# Altium footprint library IPC-7355 QFP_Shrink_Rect_40P_Side_N.PcbLib: 12 footprints
Each footprint in its own frame and in the unit in brackets; x right, y up, seen from the top. Pads: shape width x height; smd on the part's side, far side on the other; paste and mask are expansions set on the pad; w line width, h text height; cw(c..) or ccw(c..) is an arc to the next point about the centre after c.
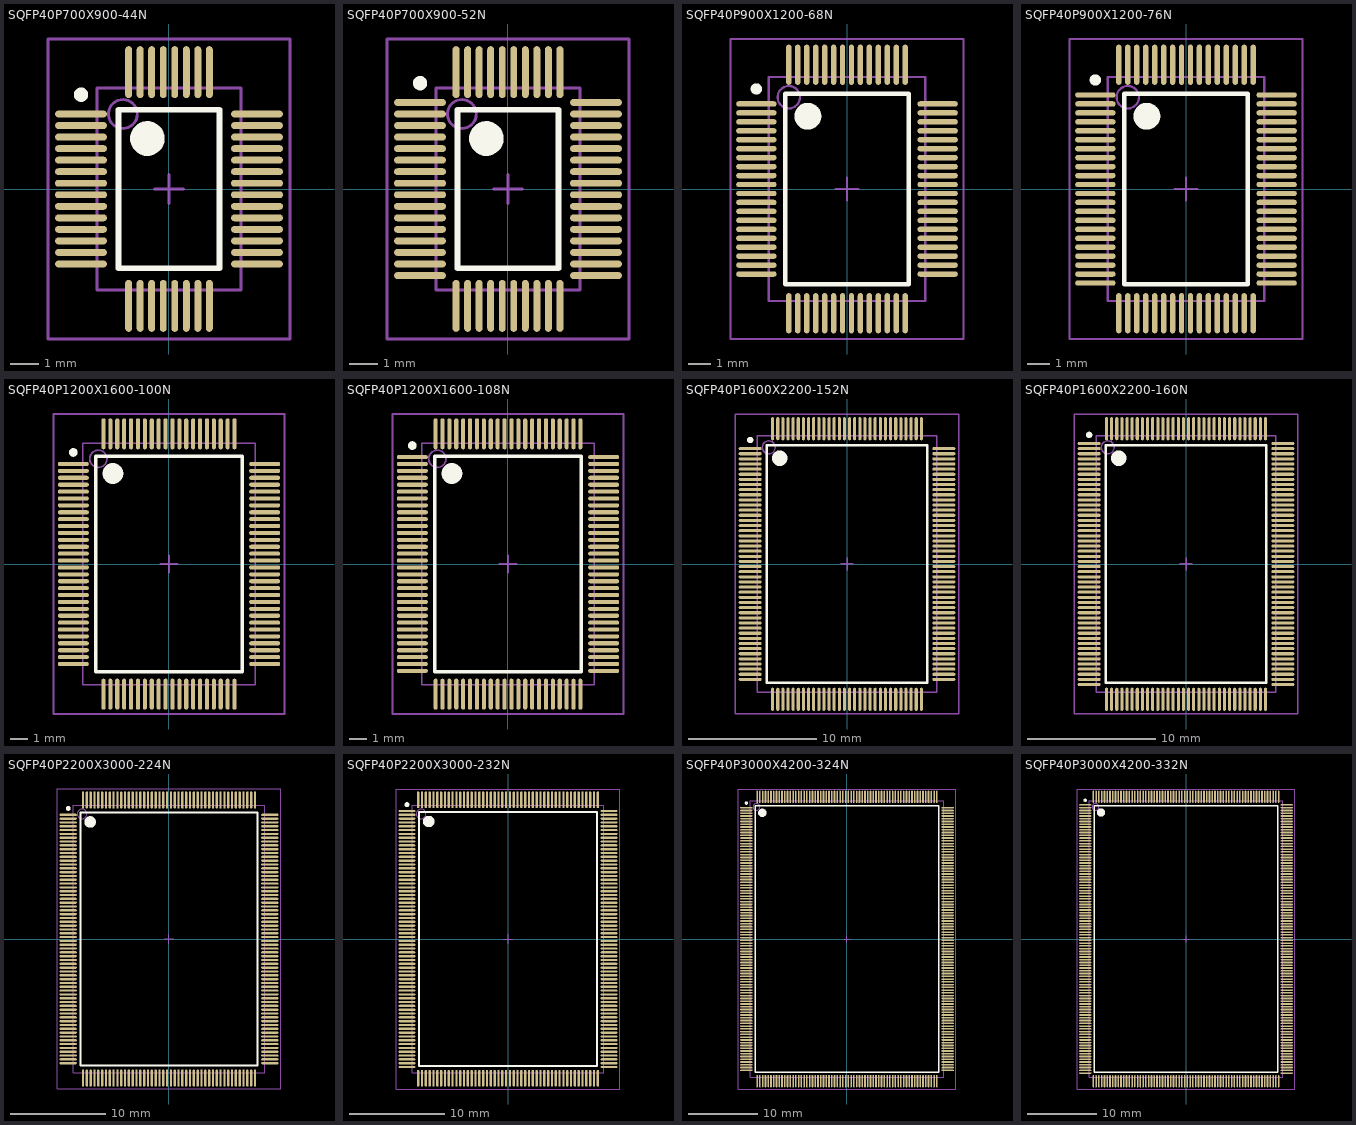
[diagram p0: the footprints below, top view; thin cyan lines are the x and y axes]

## SQFP40P700X900-44N [mm] "Shrink QFP, 44-Leads, Body 7x5 mm, Pitch 0.4mm, IPC Medium Density"
height 1.7
pads (44):
  oval 1.8x0.24 smd: 1(-3.05,2.6) 2(-3.05,2.2) 3(-3.05,1.8) 4(-3.05,1.4) 5(-3.05,1) 6(-3.05,0.6) 7(-3.05,0.2) 8(-3.05,-0.2) 9(-3.05,-0.6) 10(-3.05,-1) 11(-3.05,-1.4) 12(-3.05,-1.8) 13(-3.05,-2.2) 14(-3.05,-2.6) 23(3.05,-2.6) 24(3.05,-2.2) 25(3.05,-1.8) 26(3.05,-1.4) 27(3.05,-1) 28(3.05,-0.6) 29(3.05,-0.2) 30(3.05,0.2) 31(3.05,0.6) 32(3.05,1) 33(3.05,1.4) 34(3.05,1.8) 35(3.05,2.2) 36(3.05,2.6)
  oval 0.24x1.8 smd: 15(-1.4,-4.05) 16(-1,-4.05) 17(-0.6,-4.05) 18(-0.2,-4.05) 19(0.2,-4.05) 20(0.6,-4.05) 21(1,-4.05) 22(1.4,-4.05) 37(1.4,4.05) 38(1,4.05) 39(0.6,4.05) 40(0.2,4.05) 41(-0.2,4.05) 42(-0.6,4.05) 43(-1,4.05) 44(-1.4,4.05)
Top Overlay:
  circle w0.6: c-0.75,1.75 r0.3
  circle w0.25: c-3.05,3.27 r0.125
  lines w0.2: -1.75,-2.75 1.75,-2.75 1.75,2.75 -1.75,2.75 -1.75,-2.75
Mechanical 13:
  circle w0.1: c-1.6,2.6 r0.5
  lines w0.1: -2.5,-3.5 2.5,-3.5 2.5,3.5 -2.5,3.5 -2.5,-3.5
Mechanical 15:
  lines w0.1: -0.5,0 0.5,0 ; 0,-0.5 0,0.5 ; -4.2,-5.2 4.2,-5.2 4.2,5.2 -4.2,5.2 -4.2,-5.2
3D body: height 1.7, standoff 0, extent -2.5,-3.5 2.5,3.5

## SQFP40P700X900-52N [mm] "Shrink QFP, 52-Leads, Body 7x5 mm, Pitch 0.4mm, IPC Medium Density"
height 1.7
pads (52):
  oval 1.8x0.24 smd: 1(-3.05,3) 2(-3.05,2.6) 3(-3.05,2.2) 4(-3.05,1.8) 5(-3.05,1.4) 6(-3.05,1) 7(-3.05,0.6) 8(-3.05,0.2) 9(-3.05,-0.2) 10(-3.05,-0.6) 11(-3.05,-1) 12(-3.05,-1.4) 13(-3.05,-1.8) 14(-3.05,-2.2) 15(-3.05,-2.6) 16(-3.05,-3) 27(3.05,-3) 28(3.05,-2.6) 29(3.05,-2.2) 30(3.05,-1.8) 31(3.05,-1.4) 32(3.05,-1) 33(3.05,-0.6) 34(3.05,-0.2) 35(3.05,0.2) 36(3.05,0.6) 37(3.05,1) 38(3.05,1.4) 39(3.05,1.8) 40(3.05,2.2) 41(3.05,2.6) 42(3.05,3)
  oval 0.24x1.8 smd: 17(-1.8,-4.05) 18(-1.4,-4.05) 19(-1,-4.05) 20(-0.6,-4.05) 21(-0.2,-4.05) 22(0.2,-4.05) 23(0.6,-4.05) 24(1,-4.05) 25(1.4,-4.05) 26(1.8,-4.05) 43(1.8,4.05) 44(1.4,4.05) 45(1,4.05) 46(0.6,4.05) 47(0.2,4.05) 48(-0.2,4.05) 49(-0.6,4.05) 50(-1,4.05) 51(-1.4,4.05) 52(-1.8,4.05)
Top Overlay:
  circle w0.6: c-0.75,1.75 r0.3
  circle w0.25: c-3.05,3.67 r0.125
  lines w0.2: -1.75,-2.75 1.75,-2.75 1.75,2.75 -1.75,2.75 -1.75,-2.75
Mechanical 13:
  circle w0.1: c-1.6,2.6 r0.5
  lines w0.1: -2.5,-3.5 2.5,-3.5 2.5,3.5 -2.5,3.5 -2.5,-3.5
Mechanical 15:
  lines w0.1: -0.5,0 0.5,0 ; 0,-0.5 0,0.5 ; -4.2,-5.2 4.2,-5.2 4.2,5.2 -4.2,5.2 -4.2,-5.2
3D body: height 1.7, standoff 0, extent -2.5,-3.5 2.5,3.5

## SQFP40P900X1200-68N [mm] "Shrink QFP, 68-Leads, Body 10x7 mm, Pitch 0.4mm, IPC Medium Density"
height 2.2
pads (68):
  oval 1.8x0.24 smd: 1(-4.05,3.8) 2(-4.05,3.4) 3(-4.05,3) 4(-4.05,2.6) 5(-4.05,2.2) 6(-4.05,1.8) 7(-4.05,1.4) 8(-4.05,1) 9(-4.05,0.6) 10(-4.05,0.2) 11(-4.05,-0.2) 12(-4.05,-0.6) 13(-4.05,-1) 14(-4.05,-1.4) 15(-4.05,-1.8) 16(-4.05,-2.2) 17(-4.05,-2.6) 18(-4.05,-3) 19(-4.05,-3.4) 20(-4.05,-3.8) 35(4.05,-3.8) 36(4.05,-3.4) 37(4.05,-3) 38(4.05,-2.6) 39(4.05,-2.2) 40(4.05,-1.8) 41(4.05,-1.4) 42(4.05,-1) 43(4.05,-0.6) 44(4.05,-0.2) 45(4.05,0.2) 46(4.05,0.6) 47(4.05,1) 48(4.05,1.4) 49(4.05,1.8) 50(4.05,2.2) 51(4.05,2.6) 52(4.05,3) 53(4.05,3.4) 54(4.05,3.8)
  oval 0.24x1.8 smd: 21(-2.6,-5.55) 22(-2.2,-5.55) 23(-1.8,-5.55) 24(-1.4,-5.55) 25(-1,-5.55) 26(-0.6,-5.55) 27(-0.2,-5.55) 28(0.2,-5.55) 29(0.6,-5.55) 30(1,-5.55) 31(1.4,-5.55) 32(1.8,-5.55) 33(2.2,-5.55) 34(2.6,-5.55) 55(2.6,5.55) 56(2.2,5.55) 57(1.8,5.55) 58(1.4,5.55) 59(1,5.55) 60(0.6,5.55) 61(0.2,5.55) 62(-0.2,5.55) 63(-0.6,5.55) 64(-1,5.55) 65(-1.4,5.55) 66(-1.8,5.55) 67(-2.2,5.55) 68(-2.6,5.55)
Top Overlay:
  circle w0.6: c-1.75,3.25 r0.3
  circle w0.25: c-4.05,4.47 r0.125
  lines w0.2: -2.75,-4.25 2.75,-4.25 2.75,4.25 -2.75,4.25 -2.75,-4.25
Mechanical 13:
  circle w0.1: c-2.6,4.1 r0.5
  lines w0.1: -3.5,-5 3.5,-5 3.5,5 -3.5,5 -3.5,-5
Mechanical 15:
  lines w0.1: -0.5,0 0.5,0 ; 0,-0.5 0,0.5 ; -5.2,-6.7 5.2,-6.7 5.2,6.7 -5.2,6.7 -5.2,-6.7
3D body: height 2.2, standoff 0, extent -3.5,-5 3.5,5

## SQFP40P900X1200-76N [mm] "Shrink QFP, 76-Leads, Body 10x7 mm, Pitch 0.4mm, IPC Medium Density"
height 2.2
pads (76):
  oval 1.8x0.24 smd: 1(-4.05,4.2) 2(-4.05,3.8) 3(-4.05,3.4) 4(-4.05,3) 5(-4.05,2.6) 6(-4.05,2.2) 7(-4.05,1.8) 8(-4.05,1.4) 9(-4.05,1) 10(-4.05,0.6) 11(-4.05,0.2) 12(-4.05,-0.2) 13(-4.05,-0.6) 14(-4.05,-1) 15(-4.05,-1.4) 16(-4.05,-1.8) 17(-4.05,-2.2) 18(-4.05,-2.6) 19(-4.05,-3) 20(-4.05,-3.4) 21(-4.05,-3.8) 22(-4.05,-4.2) 39(4.05,-4.2) 40(4.05,-3.8) 41(4.05,-3.4) 42(4.05,-3) 43(4.05,-2.6) 44(4.05,-2.2) 45(4.05,-1.8) 46(4.05,-1.4) 47(4.05,-1) 48(4.05,-0.6) 49(4.05,-0.2) 50(4.05,0.2) 51(4.05,0.6) 52(4.05,1) 53(4.05,1.4) 54(4.05,1.8) 55(4.05,2.2) 56(4.05,2.6) 57(4.05,3) 58(4.05,3.4) 59(4.05,3.8) 60(4.05,4.2)
  oval 0.24x1.8 smd: 23(-3,-5.55) 24(-2.6,-5.55) 25(-2.2,-5.55) 26(-1.8,-5.55) 27(-1.4,-5.55) 28(-1,-5.55) 29(-0.6,-5.55) 30(-0.2,-5.55) 31(0.2,-5.55) 32(0.6,-5.55) 33(1,-5.55) 34(1.4,-5.55) 35(1.8,-5.55) 36(2.2,-5.55) 37(2.6,-5.55) 38(3,-5.55) 61(3,5.55) 62(2.6,5.55) 63(2.2,5.55) 64(1.8,5.55) 65(1.4,5.55) 66(1,5.55) 67(0.6,5.55) 68(0.2,5.55) 69(-0.2,5.55) 70(-0.6,5.55) 71(-1,5.55) 72(-1.4,5.55) 73(-1.8,5.55) 74(-2.2,5.55) 75(-2.6,5.55) 76(-3,5.55)
Top Overlay:
  circle w0.6: c-1.75,3.25 r0.3
  circle w0.25: c-4.05,4.87 r0.125
  lines w0.2: -2.75,-4.25 2.75,-4.25 2.75,4.25 -2.75,4.25 -2.75,-4.25
Mechanical 13:
  circle w0.1: c-2.6,4.1 r0.5
  lines w0.1: -3.5,-5 3.5,-5 3.5,5 -3.5,5 -3.5,-5
Mechanical 15:
  lines w0.1: -0.5,0 0.5,0 ; 0,-0.5 0,0.5 ; -5.2,-6.7 5.2,-6.7 5.2,6.7 -5.2,6.7 -5.2,-6.7
3D body: height 2.2, standoff 0, extent -3.5,-5 3.5,5

## SQFP40P1200X1600-100N [mm] "Shrink QFP, 100-Leads, Body 14x10 mm, Pitch 0.4mm, IPC Medium Density"
height 2.2
pads (100):
  oval 1.8x0.24 smd: 1(-5.55,5.8) 2(-5.55,5.4) 3(-5.55,5) 4(-5.55,4.6) 5(-5.55,4.2) 6(-5.55,3.8) 7(-5.55,3.4) 8(-5.55,3) 9(-5.55,2.6) 10(-5.55,2.2) 11(-5.55,1.8) 12(-5.55,1.4) 13(-5.55,1) 14(-5.55,0.6) 15(-5.55,0.2) 16(-5.55,-0.2) 17(-5.55,-0.6) 18(-5.55,-1) 19(-5.55,-1.4) 20(-5.55,-1.8) 21(-5.55,-2.2) 22(-5.55,-2.6) 23(-5.55,-3) 24(-5.55,-3.4) 25(-5.55,-3.8) 26(-5.55,-4.2) 27(-5.55,-4.6) 28(-5.55,-5) 29(-5.55,-5.4) 30(-5.55,-5.8) 51(5.55,-5.8) 52(5.55,-5.4) 53(5.55,-5) 54(5.55,-4.6) 55(5.55,-4.2) 56(5.55,-3.8) 57(5.55,-3.4) 58(5.55,-3) 59(5.55,-2.6) 60(5.55,-2.2) 61(5.55,-1.8) 62(5.55,-1.4) 63(5.55,-1) 64(5.55,-0.6) 65(5.55,-0.2) 66(5.55,0.2) 67(5.55,0.6) 68(5.55,1) 69(5.55,1.4) 70(5.55,1.8) 71(5.55,2.2) 72(5.55,2.6) 73(5.55,3) 74(5.55,3.4) 75(5.55,3.8) 76(5.55,4.2) 77(5.55,4.6) 78(5.55,5) 79(5.55,5.4) 80(5.55,5.8)
  oval 0.24x1.8 smd: 31(-3.8,-7.55) 32(-3.4,-7.55) 33(-3,-7.55) 34(-2.6,-7.55) 35(-2.2,-7.55) 36(-1.8,-7.55) 37(-1.4,-7.55) 38(-1,-7.55) 39(-0.6,-7.55) 40(-0.2,-7.55) 41(0.2,-7.55) 42(0.6,-7.55) 43(1,-7.55) 44(1.4,-7.55) 45(1.8,-7.55) 46(2.2,-7.55) 47(2.6,-7.55) 48(3,-7.55) 49(3.4,-7.55) 50(3.8,-7.55) 81(3.8,7.55) 82(3.4,7.55) 83(3,7.55) 84(2.6,7.55) 85(2.2,7.55) 86(1.8,7.55) 87(1.4,7.55) 88(1,7.55) 89(0.6,7.55) 90(0.2,7.55) 91(-0.2,7.55) 92(-0.6,7.55) 93(-1,7.55) 94(-1.4,7.55) 95(-1.8,7.55) 96(-2.2,7.55) 97(-2.6,7.55) 98(-3,7.55) 99(-3.4,7.55) 100(-3.8,7.55)
Top Overlay:
  circle w0.25: c-5.55,6.47 r0.125
  circle w0.6: c-3.25,5.25 r0.3
  lines w0.2: -4.25,-6.25 -4.25,6.25 4.25,6.25 4.25,-6.25 -4.25,-6.25
Mechanical 13:
  circle w0.1: c-4.1,6.1 r0.5
  lines w0.1: -5,-7 -5,7 5,7 5,-7 -5,-7
Mechanical 15:
  lines w0.1: -0.5,0 0.5,0 ; 0,-0.5 0,0.5 ; -6.7,-8.7 -6.7,8.7 6.7,8.7 6.7,-8.7 -6.7,-8.7
3D body: height 2.2, standoff 0, extent -5,-7 5,7

## SQFP40P1200X1600-108N [mm] "Shrink QFP, 108-Leads, Body 14x10 mm, Pitch 0.4mm, IPC Medium Density"
height 2.2
pads (108):
  oval 1.8x0.24 smd: 1(-5.55,6.2) 2(-5.55,5.8) 3(-5.55,5.4) 4(-5.55,5) 5(-5.55,4.6) 6(-5.55,4.2) 7(-5.55,3.8) 8(-5.55,3.4) 9(-5.55,3) 10(-5.55,2.6) 11(-5.55,2.2) 12(-5.55,1.8) 13(-5.55,1.4) 14(-5.55,1) 15(-5.55,0.6) 16(-5.55,0.2) 17(-5.55,-0.2) 18(-5.55,-0.6) 19(-5.55,-1) 20(-5.55,-1.4) 21(-5.55,-1.8) 22(-5.55,-2.2) 23(-5.55,-2.6) 24(-5.55,-3) 25(-5.55,-3.4) 26(-5.55,-3.8) 27(-5.55,-4.2) 28(-5.55,-4.6) 29(-5.55,-5) 30(-5.55,-5.4) 31(-5.55,-5.8) 32(-5.55,-6.2) 55(5.55,-6.2) 56(5.55,-5.8) 57(5.55,-5.4) 58(5.55,-5) 59(5.55,-4.6) 60(5.55,-4.2) 61(5.55,-3.8) 62(5.55,-3.4) 63(5.55,-3) 64(5.55,-2.6) 65(5.55,-2.2) 66(5.55,-1.8) 67(5.55,-1.4) 68(5.55,-1) 69(5.55,-0.6) 70(5.55,-0.2) 71(5.55,0.2) 72(5.55,0.6) 73(5.55,1) 74(5.55,1.4) 75(5.55,1.8) 76(5.55,2.2) 77(5.55,2.6) 78(5.55,3) 79(5.55,3.4) 80(5.55,3.8) 81(5.55,4.2) 82(5.55,4.6) 83(5.55,5) 84(5.55,5.4) 85(5.55,5.8) 86(5.55,6.2)
  oval 0.24x1.8 smd: 33(-4.2,-7.55) 34(-3.8,-7.55) 35(-3.4,-7.55) 36(-3,-7.55) 37(-2.6,-7.55) 38(-2.2,-7.55) 39(-1.8,-7.55) 40(-1.4,-7.55) 41(-1,-7.55) 42(-0.6,-7.55) 43(-0.2,-7.55) 44(0.2,-7.55) 45(0.6,-7.55) 46(1,-7.55) 47(1.4,-7.55) 48(1.8,-7.55) 49(2.2,-7.55) 50(2.6,-7.55) 51(3,-7.55) 52(3.4,-7.55) 53(3.8,-7.55) 54(4.2,-7.55) 87(4.2,7.55) 88(3.8,7.55) 89(3.4,7.55) 90(3,7.55) 91(2.6,7.55) 92(2.2,7.55) 93(1.8,7.55) 94(1.4,7.55) 95(1,7.55) 96(0.6,7.55) 97(0.2,7.55) 98(-0.2,7.55) 99(-0.6,7.55) 100(-1,7.55) 101(-1.4,7.55) 102(-1.8,7.55) 103(-2.2,7.55) 104(-2.6,7.55) 105(-3,7.55) 106(-3.4,7.55) 107(-3.8,7.55) 108(-4.2,7.55)
Top Overlay:
  circle w0.6: c-3.25,5.25 r0.3
  circle w0.25: c-5.55,6.87 r0.125
  lines w0.2: -4.25,-6.25 4.25,-6.25 4.25,6.25 -4.25,6.25 -4.25,-6.25
Mechanical 13:
  circle w0.1: c-4.1,6.1 r0.5
  lines w0.1: -5,-7 5,-7 5,7 -5,7 -5,-7
Mechanical 15:
  lines w0.1: -0.5,0 0.5,0 ; 0,-0.5 0,0.5 ; -6.7,-8.7 6.7,-8.7 6.7,8.7 -6.7,8.7 -6.7,-8.7
3D body: height 2.2, standoff 0, extent -5,-7 5,7

## SQFP40P1600X2200-152N [mm] "Shrink QFP, 152-Leads, Body 20x14 mm, Pitch 0.4mm, IPC Medium Density"
height 2.2
pads (152):
  oval 1.8x0.24 smd: 1(-7.55,9) 2(-7.55,8.6) 3(-7.55,8.2) 4(-7.55,7.8) 5(-7.55,7.4) 6(-7.55,7) 7(-7.55,6.6) 8(-7.55,6.2) 9(-7.55,5.8) 10(-7.55,5.4) 11(-7.55,5) 12(-7.55,4.6) 13(-7.55,4.2) 14(-7.55,3.8) 15(-7.55,3.4) 16(-7.55,3) 17(-7.55,2.6) 18(-7.55,2.2) 19(-7.55,1.8) 20(-7.55,1.4) 21(-7.55,1) 22(-7.55,0.6) 23(-7.55,0.2) 24(-7.55,-0.2) 25(-7.55,-0.6) 26(-7.55,-1) 27(-7.55,-1.4) 28(-7.55,-1.8) 29(-7.55,-2.2) 30(-7.55,-2.6) 31(-7.55,-3) 32(-7.55,-3.4) 33(-7.55,-3.8) 34(-7.55,-4.2) 35(-7.55,-4.6) 36(-7.55,-5) 37(-7.55,-5.4) 38(-7.55,-5.8) 39(-7.55,-6.2) 40(-7.55,-6.6) 41(-7.55,-7) 42(-7.55,-7.4) 43(-7.55,-7.8) 44(-7.55,-8.2) 45(-7.55,-8.6) 46(-7.55,-9) 77(7.55,-9) 78(7.55,-8.6) 79(7.55,-8.2) 80(7.55,-7.8) 81(7.55,-7.4) 82(7.55,-7) 83(7.55,-6.6) 84(7.55,-6.2) 85(7.55,-5.8) 86(7.55,-5.4) 87(7.55,-5) 88(7.55,-4.6) 89(7.55,-4.2) 90(7.55,-3.8) 91(7.55,-3.4) 92(7.55,-3) 93(7.55,-2.6) 94(7.55,-2.2) 95(7.55,-1.8) 96(7.55,-1.4) 97(7.55,-1) 98(7.55,-0.6) 99(7.55,-0.2) 100(7.55,0.2) 101(7.55,0.6) 102(7.55,1) 103(7.55,1.4) 104(7.55,1.8) 105(7.55,2.2) 106(7.55,2.6) 107(7.55,3) 108(7.55,3.4) 109(7.55,3.8) 110(7.55,4.2) 111(7.55,4.6) 112(7.55,5) 113(7.55,5.4) 114(7.55,5.8) 115(7.55,6.2) 116(7.55,6.6) 117(7.55,7) 118(7.55,7.4) 119(7.55,7.8) 120(7.55,8.2) 121(7.55,8.6) 122(7.55,9)
  oval 0.24x1.8 smd: 47(-5.8,-10.55) 48(-5.4,-10.55) 49(-5,-10.55) 50(-4.6,-10.55) 51(-4.2,-10.55) 52(-3.8,-10.55) 53(-3.4,-10.55) 54(-3,-10.55) 55(-2.6,-10.55) 56(-2.2,-10.55) 57(-1.8,-10.55) 58(-1.4,-10.55) 59(-1,-10.55) 60(-0.6,-10.55) 61(-0.2,-10.55) 62(0.2,-10.55) 63(0.6,-10.55) 64(1,-10.55) 65(1.4,-10.55) 66(1.8,-10.55) 67(2.2,-10.55) 68(2.6,-10.55) 69(3,-10.55) 70(3.4,-10.55) 71(3.8,-10.55) 72(4.2,-10.55) 73(4.6,-10.55) 74(5,-10.55) 75(5.4,-10.55) 76(5.8,-10.55) 123(5.8,10.55) 124(5.4,10.55) 125(5,10.55) 126(4.6,10.55) 127(4.2,10.55) 128(3.8,10.55) 129(3.4,10.55) 130(3,10.55) 131(2.6,10.55) 132(2.2,10.55) 133(1.8,10.55) 134(1.4,10.55) 135(1,10.55) 136(0.6,10.55) 137(0.2,10.55) 138(-0.2,10.55) 139(-0.6,10.55) 140(-1,10.55) 141(-1.4,10.55) 142(-1.8,10.55) 143(-2.2,10.55) 144(-2.6,10.55) 145(-3,10.55) 146(-3.4,10.55) 147(-3.8,10.55) 148(-4.2,10.55) 149(-4.6,10.55) 150(-5,10.55) 151(-5.4,10.55) 152(-5.8,10.55)
Top Overlay:
  circle w0.6: c-5.25,8.25 r0.3
  circle w0.25: c-7.55,9.67 r0.125
  lines w0.2: -6.25,-9.25 6.25,-9.25 6.25,9.25 -6.25,9.25 -6.25,-9.25
Mechanical 13:
  circle w0.1: c-6.1,9.1 r0.5
  lines w0.1: -7,-10 7,-10 7,10 -7,10 -7,-10
Mechanical 15:
  lines w0.1: -0.5,0 0.5,0 ; 0,-0.5 0,0.5 ; -8.7,-11.7 8.7,-11.7 8.7,11.7 -8.7,11.7 -8.7,-11.7
3D body: height 2.2, standoff 0, extent -7,-10 7,10

## SQFP40P1600X2200-160N [mm] "Shrink QFP, 160-Leads, Body 20x14 mm, Pitch 0.4mm, IPC Medium Density"
height 2.2
pads (160):
  oval 1.8x0.24 smd: 1(-7.55,9.4) 2(-7.55,9) 3(-7.55,8.6) 4(-7.55,8.2) 5(-7.55,7.8) 6(-7.55,7.4) 7(-7.55,7) 8(-7.55,6.6) 9(-7.55,6.2) 10(-7.55,5.8) 11(-7.55,5.4) 12(-7.55,5) 13(-7.55,4.6) 14(-7.55,4.2) 15(-7.55,3.8) 16(-7.55,3.4) 17(-7.55,3) 18(-7.55,2.6) 19(-7.55,2.2) 20(-7.55,1.8) 21(-7.55,1.4) 22(-7.55,1) 23(-7.55,0.6) 24(-7.55,0.2) 25(-7.55,-0.2) 26(-7.55,-0.6) 27(-7.55,-1) 28(-7.55,-1.4) 29(-7.55,-1.8) 30(-7.55,-2.2) 31(-7.55,-2.6) 32(-7.55,-3) 33(-7.55,-3.4) 34(-7.55,-3.8) 35(-7.55,-4.2) 36(-7.55,-4.6) 37(-7.55,-5) 38(-7.55,-5.4) 39(-7.55,-5.8) 40(-7.55,-6.2) 41(-7.55,-6.6) 42(-7.55,-7) 43(-7.55,-7.4) 44(-7.55,-7.8) 45(-7.55,-8.2) 46(-7.55,-8.6) 47(-7.55,-9) 48(-7.55,-9.4) 81(7.55,-9.4) 82(7.55,-9) 83(7.55,-8.6) 84(7.55,-8.2) 85(7.55,-7.8) 86(7.55,-7.4) 87(7.55,-7) 88(7.55,-6.6) 89(7.55,-6.2) 90(7.55,-5.8) 91(7.55,-5.4) 92(7.55,-5) 93(7.55,-4.6) 94(7.55,-4.2) 95(7.55,-3.8) 96(7.55,-3.4) 97(7.55,-3) 98(7.55,-2.6) 99(7.55,-2.2) 100(7.55,-1.8) 101(7.55,-1.4) 102(7.55,-1) 103(7.55,-0.6) 104(7.55,-0.2) 105(7.55,0.2) 106(7.55,0.6) 107(7.55,1) 108(7.55,1.4) 109(7.55,1.8) 110(7.55,2.2) 111(7.55,2.6) 112(7.55,3) 113(7.55,3.4) 114(7.55,3.8) 115(7.55,4.2) 116(7.55,4.6) 117(7.55,5) 118(7.55,5.4) 119(7.55,5.8) 120(7.55,6.2) 121(7.55,6.6) 122(7.55,7) 123(7.55,7.4) 124(7.55,7.8) 125(7.55,8.2) 126(7.55,8.6) 127(7.55,9) 128(7.55,9.4)
  oval 0.24x1.8 smd: 49(-6.2,-10.55) 50(-5.8,-10.55) 51(-5.4,-10.55) 52(-5,-10.55) 53(-4.6,-10.55) 54(-4.2,-10.55) 55(-3.8,-10.55) 56(-3.4,-10.55) 57(-3,-10.55) 58(-2.6,-10.55) 59(-2.2,-10.55) 60(-1.8,-10.55) 61(-1.4,-10.55) 62(-1,-10.55) 63(-0.6,-10.55) 64(-0.2,-10.55) 65(0.2,-10.55) 66(0.6,-10.55) 67(1,-10.55) 68(1.4,-10.55) 69(1.8,-10.55) 70(2.2,-10.55) 71(2.6,-10.55) 72(3,-10.55) 73(3.4,-10.55) 74(3.8,-10.55) 75(4.2,-10.55) 76(4.6,-10.55) 77(5,-10.55) 78(5.4,-10.55) 79(5.8,-10.55) 80(6.2,-10.55) 129(6.2,10.55) 130(5.8,10.55) 131(5.4,10.55) 132(5,10.55) 133(4.6,10.55) 134(4.2,10.55) 135(3.8,10.55) 136(3.4,10.55) 137(3,10.55) 138(2.6,10.55) 139(2.2,10.55) 140(1.8,10.55) 141(1.4,10.55) 142(1,10.55) 143(0.6,10.55) 144(0.2,10.55) 145(-0.2,10.55) 146(-0.6,10.55) 147(-1,10.55) 148(-1.4,10.55) 149(-1.8,10.55) 150(-2.2,10.55) 151(-2.6,10.55) 152(-3,10.55) 153(-3.4,10.55) 154(-3.8,10.55) 155(-4.2,10.55) 156(-4.6,10.55) 157(-5,10.55) 158(-5.4,10.55) 159(-5.8,10.55) 160(-6.2,10.55)
Top Overlay:
  circle w0.6: c-5.25,8.25 r0.3
  circle w0.25: c-7.55,10.07 r0.125
  lines w0.2: -6.25,-9.25 6.25,-9.25 6.25,9.25 -6.25,9.25 -6.25,-9.25
Mechanical 13:
  circle w0.1: c-6.1,9.1 r0.5
  lines w0.1: -7,-10 7,-10 7,10 -7,10 -7,-10
Mechanical 15:
  lines w0.1: -0.5,0 0.5,0 ; 0,-0.5 0,0.5 ; -8.7,-11.7 8.7,-11.7 8.7,11.7 -8.7,11.7 -8.7,-11.7
3D body: height 2.2, standoff 0, extent -7,-10 7,10

## SQFP40P2200X3000-224N [mm] "Shrink QFP, 224-Leads, Body 28x20 mm, Pitch 0.4mm, IPC Medium Density"
height 3.75
pads (224):
  oval 1.8x0.24 smd: 1(-10.55,13) 2(-10.55,12.6) 3(-10.55,12.2) 4(-10.55,11.8) 5(-10.55,11.4) 6(-10.55,11) 7(-10.55,10.6) 8(-10.55,10.2) 9(-10.55,9.8) 10(-10.55,9.4) 11(-10.55,9) 12(-10.55,8.6) 13(-10.55,8.2) 14(-10.55,7.8) 15(-10.55,7.4) 16(-10.55,7) 17(-10.55,6.6) 18(-10.55,6.2) 19(-10.55,5.8) 20(-10.55,5.4) 21(-10.55,5) 22(-10.55,4.6) 23(-10.55,4.2) 24(-10.55,3.8) 25(-10.55,3.4) 26(-10.55,3) 27(-10.55,2.6) 28(-10.55,2.2) 29(-10.55,1.8) 30(-10.55,1.4) 31(-10.55,1) 32(-10.55,0.6) 33(-10.55,0.2) 34(-10.55,-0.2) 35(-10.55,-0.6) 36(-10.55,-1) 37(-10.55,-1.4) 38(-10.55,-1.8) 39(-10.55,-2.2) 40(-10.55,-2.6) 41(-10.55,-3) 42(-10.55,-3.4) 43(-10.55,-3.8) 44(-10.55,-4.2) 45(-10.55,-4.6) 46(-10.55,-5) 47(-10.55,-5.4) 48(-10.55,-5.8) 49(-10.55,-6.2) 50(-10.55,-6.6) 51(-10.55,-7) 52(-10.55,-7.4) 53(-10.55,-7.8) 54(-10.55,-8.2) 55(-10.55,-8.6) 56(-10.55,-9) 57(-10.55,-9.4) 58(-10.55,-9.8) 59(-10.55,-10.2) 60(-10.55,-10.6) 61(-10.55,-11) 62(-10.55,-11.4) 63(-10.55,-11.8) 64(-10.55,-12.2) 65(-10.55,-12.6) 66(-10.55,-13) 113(10.55,-13) 114(10.55,-12.6) 115(10.55,-12.2) 116(10.55,-11.8) 117(10.55,-11.4) 118(10.55,-11) 119(10.55,-10.6) 120(10.55,-10.2) 121(10.55,-9.8) 122(10.55,-9.4) 123(10.55,-9) 124(10.55,-8.6) 125(10.55,-8.2) 126(10.55,-7.8) 127(10.55,-7.4) 128(10.55,-7) 129(10.55,-6.6) 130(10.55,-6.2) 131(10.55,-5.8) 132(10.55,-5.4) 133(10.55,-5) 134(10.55,-4.6) 135(10.55,-4.2) 136(10.55,-3.8) 137(10.55,-3.4) 138(10.55,-3) 139(10.55,-2.6) 140(10.55,-2.2) 141(10.55,-1.8) 142(10.55,-1.4) 143(10.55,-1) 144(10.55,-0.6) 145(10.55,-0.2) 146(10.55,0.2) 147(10.55,0.6) 148(10.55,1) 149(10.55,1.4) 150(10.55,1.8) 151(10.55,2.2) 152(10.55,2.6) 153(10.55,3) 154(10.55,3.4) 155(10.55,3.8) 156(10.55,4.2) 157(10.55,4.6) 158(10.55,5) 159(10.55,5.4) 160(10.55,5.8) 161(10.55,6.2) 162(10.55,6.6) 163(10.55,7) 164(10.55,7.4) 165(10.55,7.8) 166(10.55,8.2) 167(10.55,8.6) 168(10.55,9) 169(10.55,9.4) 170(10.55,9.8) 171(10.55,10.2) 172(10.55,10.6) 173(10.55,11) 174(10.55,11.4) 175(10.55,11.8) 176(10.55,12.2) 177(10.55,12.6) 178(10.55,13)
  oval 0.24x1.8 smd: 67(-9,-14.55) 68(-8.6,-14.55) 69(-8.2,-14.55) 70(-7.8,-14.55) 71(-7.4,-14.55) 72(-7,-14.55) 73(-6.6,-14.55) 74(-6.2,-14.55) 75(-5.8,-14.55) 76(-5.4,-14.55) 77(-5,-14.55) 78(-4.6,-14.55) 79(-4.2,-14.55) 80(-3.8,-14.55) 81(-3.4,-14.55) 82(-3,-14.55) 83(-2.6,-14.55) 84(-2.2,-14.55) 85(-1.8,-14.55) 86(-1.4,-14.55) 87(-1,-14.55) 88(-0.6,-14.55) 89(-0.2,-14.55) 90(0.2,-14.55) 91(0.6,-14.55) 92(1,-14.55) 93(1.4,-14.55) 94(1.8,-14.55) 95(2.2,-14.55) 96(2.6,-14.55) 97(3,-14.55) 98(3.4,-14.55) 99(3.8,-14.55) 100(4.2,-14.55) 101(4.6,-14.55) 102(5,-14.55) 103(5.4,-14.55) 104(5.8,-14.55) 105(6.2,-14.55) 106(6.6,-14.55) 107(7,-14.55) 108(7.4,-14.55) 109(7.8,-14.55) 110(8.2,-14.55) 111(8.6,-14.55) 112(9,-14.55) 179(9,14.55) 180(8.6,14.55) 181(8.2,14.55) 182(7.8,14.55) 183(7.4,14.55) 184(7,14.55) 185(6.6,14.55) 186(6.2,14.55) 187(5.8,14.55) 188(5.4,14.55) 189(5,14.55) 190(4.6,14.55) 191(4.2,14.55) 192(3.8,14.55) 193(3.4,14.55) 194(3,14.55) 195(2.6,14.55) 196(2.2,14.55) 197(1.8,14.55) 198(1.4,14.55) 199(1,14.55) 200(0.6,14.55) 201(0.2,14.55) 202(-0.2,14.55) 203(-0.6,14.55) 204(-1,14.55) 205(-1.4,14.55) 206(-1.8,14.55) 207(-2.2,14.55) 208(-2.6,14.55) 209(-3,14.55) 210(-3.4,14.55) 211(-3.8,14.55) 212(-4.2,14.55) 213(-4.6,14.55) 214(-5,14.55) 215(-5.4,14.55) 216(-5.8,14.55) 217(-6.2,14.55) 218(-6.6,14.55) 219(-7,14.55) 220(-7.4,14.55) 221(-7.8,14.55) 222(-8.2,14.55) 223(-8.6,14.55) 224(-9,14.55)
Top Overlay:
  circle w0.6: c-8.25,12.25 r0.3
  circle w0.25: c-10.55,13.67 r0.125
  lines w0.2: -9.25,-13.25 9.25,-13.25 9.25,13.25 -9.25,13.25 -9.25,-13.25
Mechanical 13:
  circle w0.1: c-9.1,13.1 r0.5
  lines w0.1: -10,-14 10,-14 10,14 -10,14 -10,-14
Mechanical 15:
  lines w0.1: -0.5,0 0.5,0 ; 0,-0.5 0,0.5 ; -11.7,-15.7 11.7,-15.7 11.7,15.7 -11.7,15.7 -11.7,-15.7
3D body: height 3.75, standoff 0, extent -10,-14 10,14

## SQFP40P2200X3000-232N [mm] "Shrink QFP, 232-Leads, Body 28x20 mm, Pitch 0.4mm, IPC Medium Density"
height 3.75
pads (232):
  oval 1.75x0.24 smd: 1(-10.575,13.4) 2(-10.575,13) 3(-10.575,12.6) 4(-10.575,12.2) 5(-10.575,11.8) 6(-10.575,11.4) 7(-10.575,11) 8(-10.575,10.6) 9(-10.575,10.2) 10(-10.575,9.8) 11(-10.575,9.4) 12(-10.575,9) 13(-10.575,8.6) 14(-10.575,8.2) 15(-10.575,7.8) 16(-10.575,7.4) 17(-10.575,7) 18(-10.575,6.6) 19(-10.575,6.2) 20(-10.575,5.8) 21(-10.575,5.4) 22(-10.575,5) 23(-10.575,4.6) 24(-10.575,4.2) 25(-10.575,3.8) 26(-10.575,3.4) 27(-10.575,3) 28(-10.575,2.6) 29(-10.575,2.2) 30(-10.575,1.8) 31(-10.575,1.4) 32(-10.575,1) 33(-10.575,0.6) 34(-10.575,0.2) 35(-10.575,-0.2) 36(-10.575,-0.6) 37(-10.575,-1) 38(-10.575,-1.4) 39(-10.575,-1.8) 40(-10.575,-2.2) 41(-10.575,-2.6) 42(-10.575,-3) 43(-10.575,-3.4) 44(-10.575,-3.8) 45(-10.575,-4.2) 46(-10.575,-4.6) 47(-10.575,-5) 48(-10.575,-5.4) 49(-10.575,-5.8) 50(-10.575,-6.2) 51(-10.575,-6.6) 52(-10.575,-7) 53(-10.575,-7.4) 54(-10.575,-7.8) 55(-10.575,-8.2) 56(-10.575,-8.6) 57(-10.575,-9) 58(-10.575,-9.4) 59(-10.575,-9.8) 60(-10.575,-10.2) 61(-10.575,-10.6) 62(-10.575,-11) 63(-10.575,-11.4) 64(-10.575,-11.8) 65(-10.575,-12.2) 66(-10.575,-12.6) 67(-10.575,-13) 68(-10.575,-13.4) 117(10.575,-13.4) 118(10.575,-13) 119(10.575,-12.6) 120(10.575,-12.2) 121(10.575,-11.8) 122(10.575,-11.4) 123(10.575,-11) 124(10.575,-10.6) 125(10.575,-10.2) 126(10.575,-9.8) 127(10.575,-9.4) 128(10.575,-9) 129(10.575,-8.6) 130(10.575,-8.2) 131(10.575,-7.8) 132(10.575,-7.4) 133(10.575,-7) 134(10.575,-6.6) 135(10.575,-6.2) 136(10.575,-5.8) 137(10.575,-5.4) 138(10.575,-5) 139(10.575,-4.6) 140(10.575,-4.2) 141(10.575,-3.8) 142(10.575,-3.4) 143(10.575,-3) 144(10.575,-2.6) 145(10.575,-2.2) 146(10.575,-1.8) 147(10.575,-1.4) 148(10.575,-1) 149(10.575,-0.6) 150(10.575,-0.2) 151(10.575,0.2) 152(10.575,0.6) 153(10.575,1) 154(10.575,1.4) 155(10.575,1.8) 156(10.575,2.2) 157(10.575,2.6) 158(10.575,3) 159(10.575,3.4) 160(10.575,3.8) 161(10.575,4.2) 162(10.575,4.6) 163(10.575,5) 164(10.575,5.4) 165(10.575,5.8) 166(10.575,6.2) 167(10.575,6.6) 168(10.575,7) 169(10.575,7.4) 170(10.575,7.8) 171(10.575,8.2) 172(10.575,8.6) 173(10.575,9) 174(10.575,9.4) 175(10.575,9.8) 176(10.575,10.2) 177(10.575,10.6) 178(10.575,11) 179(10.575,11.4) 180(10.575,11.8) 181(10.575,12.2) 182(10.575,12.6) 183(10.575,13) 184(10.575,13.4)
  oval 0.24x1.75 smd: 69(-9.4,-14.575) 70(-9,-14.575) 71(-8.6,-14.575) 72(-8.2,-14.575) 73(-7.8,-14.575) 74(-7.4,-14.575) 75(-7,-14.575) 76(-6.6,-14.575) 77(-6.2,-14.575) 78(-5.8,-14.575) 79(-5.4,-14.575) 80(-5,-14.575) 81(-4.6,-14.575) 82(-4.2,-14.575) 83(-3.8,-14.575) 84(-3.4,-14.575) 85(-3,-14.575) 86(-2.6,-14.575) 87(-2.2,-14.575) 88(-1.8,-14.575) 89(-1.4,-14.575) 90(-1,-14.575) 91(-0.6,-14.575) 92(-0.2,-14.575) 93(0.2,-14.575) 94(0.6,-14.575) 95(1,-14.575) 96(1.4,-14.575) 97(1.8,-14.575) 98(2.2,-14.575) 99(2.6,-14.575) 100(3,-14.575) 101(3.4,-14.575) 102(3.8,-14.575) 103(4.2,-14.575) 104(4.6,-14.575) 105(5,-14.575) 106(5.4,-14.575) 107(5.8,-14.575) 108(6.2,-14.575) 109(6.6,-14.575) 110(7,-14.575) 111(7.4,-14.575) 112(7.8,-14.575) 113(8.2,-14.575) 114(8.6,-14.575) 115(9,-14.575) 116(9.4,-14.575) 185(9.4,14.575) 186(9,14.575) 187(8.6,14.575) 188(8.2,14.575) 189(7.8,14.575) 190(7.4,14.575) 191(7,14.575) 192(6.6,14.575) 193(6.2,14.575) 194(5.8,14.575) 195(5.4,14.575) 196(5,14.575) 197(4.6,14.575) 198(4.2,14.575) 199(3.8,14.575) 200(3.4,14.575) 201(3,14.575) 202(2.6,14.575) 203(2.2,14.575) 204(1.8,14.575) 205(1.4,14.575) 206(1,14.575) 207(0.6,14.575) 208(0.2,14.575) 209(-0.2,14.575) 210(-0.6,14.575) 211(-1,14.575) 212(-1.4,14.575) 213(-1.8,14.575) 214(-2.2,14.575) 215(-2.6,14.575) 216(-3,14.575) 217(-3.4,14.575) 218(-3.8,14.575) 219(-4.2,14.575) 220(-4.6,14.575) 221(-5,14.575) 222(-5.4,14.575) 223(-5.8,14.575) 224(-6.2,14.575) 225(-6.6,14.575) 226(-7,14.575) 227(-7.4,14.575) 228(-7.8,14.575) 229(-8.2,14.575) 230(-8.6,14.575) 231(-9,14.575) 232(-9.4,14.575)
Top Overlay:
  circle w0.6: c-8.3,12.3 r0.3
  circle w0.25: c-10.575,14.07 r0.125
  lines w0.2: -9.3,-13.3 9.3,-13.3 9.3,13.3 -9.3,13.3 -9.3,-13.3
Mechanical 13:
  circle w0.1: c-9.1,13.1 r0.5
  lines w0.1: -10,-14 10,-14 10,14 -10,14 -10,-14
Mechanical 15:
  lines w0.1: -0.5,0 0.5,0 ; 0,-0.5 0,0.5 ; -11.7,-15.7 11.7,-15.7 11.7,15.7 -11.7,15.7 -11.7,-15.7
3D body: height 3.75, standoff 0, extent -10,-14 10,14

## SQFP40P3000X4200-324N [mm] "Shrink QFP, 324-Leads, Body 40x28 mm, Pitch 0.4mm, IPC Medium Density"
height 4.2
pads (324):
  oval 1.8x0.24 smd: 1(-14.55,19) 2(-14.55,18.6) 3(-14.55,18.2) 4(-14.55,17.8) 5(-14.55,17.4) 6(-14.55,17) 7(-14.55,16.6) 8(-14.55,16.2) 9(-14.55,15.8) 10(-14.55,15.4) 11(-14.55,15) 12(-14.55,14.6) 13(-14.55,14.2) 14(-14.55,13.8) 15(-14.55,13.4) 16(-14.55,13) 17(-14.55,12.6) 18(-14.55,12.2) 19(-14.55,11.8) 20(-14.55,11.4) 21(-14.55,11) 22(-14.55,10.6) 23(-14.55,10.2) 24(-14.55,9.8) 25(-14.55,9.4) 26(-14.55,9) 27(-14.55,8.6) 28(-14.55,8.2) 29(-14.55,7.8) 30(-14.55,7.4) 31(-14.55,7) 32(-14.55,6.6) 33(-14.55,6.2) 34(-14.55,5.8) 35(-14.55,5.4) 36(-14.55,5) 37(-14.55,4.6) 38(-14.55,4.2) 39(-14.55,3.8) 40(-14.55,3.4) 41(-14.55,3) 42(-14.55,2.6) 43(-14.55,2.2) 44(-14.55,1.8) 45(-14.55,1.4) 46(-14.55,1) 47(-14.55,0.6) 48(-14.55,0.2) 49(-14.55,-0.2) 50(-14.55,-0.6) 51(-14.55,-1) 52(-14.55,-1.4) 53(-14.55,-1.8) 54(-14.55,-2.2) 55(-14.55,-2.6) 56(-14.55,-3) 57(-14.55,-3.4) 58(-14.55,-3.8) 59(-14.55,-4.2) 60(-14.55,-4.6) 61(-14.55,-5) 62(-14.55,-5.4) 63(-14.55,-5.8) 64(-14.55,-6.2) 65(-14.55,-6.6) 66(-14.55,-7) 67(-14.55,-7.4) 68(-14.55,-7.8) 69(-14.55,-8.2) 70(-14.55,-8.6) 71(-14.55,-9) 72(-14.55,-9.4) 73(-14.55,-9.8) 74(-14.55,-10.2) 75(-14.55,-10.6) 76(-14.55,-11) 77(-14.55,-11.4) 78(-14.55,-11.8) 79(-14.55,-12.2) 80(-14.55,-12.6) 81(-14.55,-13) 82(-14.55,-13.4) 83(-14.55,-13.8) 84(-14.55,-14.2) 85(-14.55,-14.6) 86(-14.55,-15) 87(-14.55,-15.4) 88(-14.55,-15.8) 89(-14.55,-16.2) 90(-14.55,-16.6) 91(-14.55,-17) 92(-14.55,-17.4) 93(-14.55,-17.8) 94(-14.55,-18.2) 95(-14.55,-18.6) 96(-14.55,-19) 163(14.55,-19) 164(14.55,-18.6) 165(14.55,-18.2) 166(14.55,-17.8) 167(14.55,-17.4) 168(14.55,-17) 169(14.55,-16.6) 170(14.55,-16.2) 171(14.55,-15.8) 172(14.55,-15.4) 173(14.55,-15) 174(14.55,-14.6) 175(14.55,-14.2) 176(14.55,-13.8) 177(14.55,-13.4) 178(14.55,-13) 179(14.55,-12.6) 180(14.55,-12.2) 181(14.55,-11.8) 182(14.55,-11.4) 183(14.55,-11) 184(14.55,-10.6) 185(14.55,-10.2) 186(14.55,-9.8) 187(14.55,-9.4) 188(14.55,-9) 189(14.55,-8.6) 190(14.55,-8.2) 191(14.55,-7.8) 192(14.55,-7.4) 193(14.55,-7) 194(14.55,-6.6) 195(14.55,-6.2) 196(14.55,-5.8) 197(14.55,-5.4) 198(14.55,-5) 199(14.55,-4.6) 200(14.55,-4.2) 201(14.55,-3.8) 202(14.55,-3.4) 203(14.55,-3) 204(14.55,-2.6) 205(14.55,-2.2) 206(14.55,-1.8) 207(14.55,-1.4) 208(14.55,-1) 209(14.55,-0.6) 210(14.55,-0.2) 211(14.55,0.2) 212(14.55,0.6) 213(14.55,1) 214(14.55,1.4) 215(14.55,1.8) 216(14.55,2.2) 217(14.55,2.6) 218(14.55,3) 219(14.55,3.4) 220(14.55,3.8) 221(14.55,4.2) 222(14.55,4.6) 223(14.55,5) 224(14.55,5.4) 225(14.55,5.8) 226(14.55,6.2) 227(14.55,6.6) 228(14.55,7) 229(14.55,7.4) 230(14.55,7.8) 231(14.55,8.2) 232(14.55,8.6) 233(14.55,9) 234(14.55,9.4) 235(14.55,9.8) 236(14.55,10.2) 237(14.55,10.6) 238(14.55,11) 239(14.55,11.4) 240(14.55,11.8) 241(14.55,12.2) 242(14.55,12.6) 243(14.55,13) 244(14.55,13.4) 245(14.55,13.8) 246(14.55,14.2) 247(14.55,14.6) 248(14.55,15) 249(14.55,15.4) 250(14.55,15.8) 251(14.55,16.2) 252(14.55,16.6) 253(14.55,17) 254(14.55,17.4) 255(14.55,17.8) 256(14.55,18.2) 257(14.55,18.6) 258(14.55,19)
  oval 0.24x1.8 smd: 97(-13,-20.55) 98(-12.6,-20.55) 99(-12.2,-20.55) 100(-11.8,-20.55) 101(-11.4,-20.55) 102(-11,-20.55) 103(-10.6,-20.55) 104(-10.2,-20.55) 105(-9.8,-20.55) 106(-9.4,-20.55) 107(-9,-20.55) 108(-8.6,-20.55) 109(-8.2,-20.55) 110(-7.8,-20.55) 111(-7.4,-20.55) 112(-7,-20.55) 113(-6.6,-20.55) 114(-6.2,-20.55) 115(-5.8,-20.55) 116(-5.4,-20.55) 117(-5,-20.55) 118(-4.6,-20.55) 119(-4.2,-20.55) 120(-3.8,-20.55) 121(-3.4,-20.55) 122(-3,-20.55) 123(-2.6,-20.55) 124(-2.2,-20.55) 125(-1.8,-20.55) 126(-1.4,-20.55) 127(-1,-20.55) 128(-0.6,-20.55) 129(-0.2,-20.55) 130(0.2,-20.55) 131(0.6,-20.55) 132(1,-20.55) 133(1.4,-20.55) 134(1.8,-20.55) 135(2.2,-20.55) 136(2.6,-20.55) 137(3,-20.55) 138(3.4,-20.55) 139(3.8,-20.55) 140(4.2,-20.55) 141(4.6,-20.55) 142(5,-20.55) 143(5.4,-20.55) 144(5.8,-20.55) 145(6.2,-20.55) 146(6.6,-20.55) 147(7,-20.55) 148(7.4,-20.55) 149(7.8,-20.55) 150(8.2,-20.55) 151(8.6,-20.55) 152(9,-20.55) 153(9.4,-20.55) 154(9.8,-20.55) 155(10.2,-20.55) 156(10.6,-20.55) 157(11,-20.55) 158(11.4,-20.55) 159(11.8,-20.55) 160(12.2,-20.55) 161(12.6,-20.55) 162(13,-20.55) 259(13,20.55) 260(12.6,20.55) 261(12.2,20.55) 262(11.8,20.55) 263(11.4,20.55) 264(11,20.55) 265(10.6,20.55) 266(10.2,20.55) 267(9.8,20.55) 268(9.4,20.55) 269(9,20.55) 270(8.6,20.55) 271(8.2,20.55) 272(7.8,20.55) 273(7.4,20.55) 274(7,20.55) 275(6.6,20.55) 276(6.2,20.55) 277(5.8,20.55) 278(5.4,20.55) 279(5,20.55) 280(4.6,20.55) 281(4.2,20.55) 282(3.8,20.55) 283(3.4,20.55) 284(3,20.55) 285(2.6,20.55) 286(2.2,20.55) 287(1.8,20.55) 288(1.4,20.55) 289(1,20.55) 290(0.6,20.55) 291(0.2,20.55) 292(-0.2,20.55) 293(-0.6,20.55) 294(-1,20.55) 295(-1.4,20.55) 296(-1.8,20.55) 297(-2.2,20.55) 298(-2.6,20.55) 299(-3,20.55) 300(-3.4,20.55) 301(-3.8,20.55) 302(-4.2,20.55) 303(-4.6,20.55) 304(-5,20.55) 305(-5.4,20.55) 306(-5.8,20.55) 307(-6.2,20.55) 308(-6.6,20.55) 309(-7,20.55) 310(-7.4,20.55) 311(-7.8,20.55) 312(-8.2,20.55) 313(-8.6,20.55) 314(-9,20.55) 315(-9.4,20.55) 316(-9.8,20.55) 317(-10.2,20.55) 318(-10.6,20.55) 319(-11,20.55) 320(-11.4,20.55) 321(-11.8,20.55) 322(-12.2,20.55) 323(-12.6,20.55) 324(-13,20.55)
Top Overlay:
  circle w0.6: c-12.25,18.25 r0.3
  circle w0.25: c-14.55,19.67 r0.125
  lines w0.2: -13.25,-19.25 13.25,-19.25 13.25,19.25 -13.25,19.25 -13.25,-19.25
Mechanical 13:
  circle w0.1: c-13.1,19.1 r0.5
  lines w0.1: -14,-20 14,-20 14,20 -14,20 -14,-20
Mechanical 15:
  lines w0.1: -0.5,0 0.5,0 ; 0,-0.5 0,0.5 ; -15.7,-21.7 15.7,-21.7 15.7,21.7 -15.7,21.7 -15.7,-21.7
3D body: height 4.2, standoff 0, extent -14,-20 14,20

## SQFP40P3000X4200-332N [mm] "Shrink QFP, 332-Leads, Body 40x28 mm, Pitch 0.4mm, IPC Medium Density"
height 4.2
pads (332):
  oval 1.75x0.24 smd: 1(-14.575,19.4) 2(-14.575,19) 3(-14.575,18.6) 4(-14.575,18.2) 5(-14.575,17.8) 6(-14.575,17.4) 7(-14.575,17) 8(-14.575,16.6) 9(-14.575,16.2) 10(-14.575,15.8) 11(-14.575,15.4) 12(-14.575,15) 13(-14.575,14.6) 14(-14.575,14.2) 15(-14.575,13.8) 16(-14.575,13.4) 17(-14.575,13) 18(-14.575,12.6) 19(-14.575,12.2) 20(-14.575,11.8) 21(-14.575,11.4) 22(-14.575,11) 23(-14.575,10.6) 24(-14.575,10.2) 25(-14.575,9.8) 26(-14.575,9.4) 27(-14.575,9) 28(-14.575,8.6) 29(-14.575,8.2) 30(-14.575,7.8) 31(-14.575,7.4) 32(-14.575,7) 33(-14.575,6.6) 34(-14.575,6.2) 35(-14.575,5.8) 36(-14.575,5.4) 37(-14.575,5) 38(-14.575,4.6) 39(-14.575,4.2) 40(-14.575,3.8) 41(-14.575,3.4) 42(-14.575,3) 43(-14.575,2.6) 44(-14.575,2.2) 45(-14.575,1.8) 46(-14.575,1.4) 47(-14.575,1) 48(-14.575,0.6) 49(-14.575,0.2) 50(-14.575,-0.2) 51(-14.575,-0.6) 52(-14.575,-1) 53(-14.575,-1.4) 54(-14.575,-1.8) 55(-14.575,-2.2) 56(-14.575,-2.6) 57(-14.575,-3) 58(-14.575,-3.4) 59(-14.575,-3.8) 60(-14.575,-4.2) 61(-14.575,-4.6) 62(-14.575,-5) 63(-14.575,-5.4) 64(-14.575,-5.8) 65(-14.575,-6.2) 66(-14.575,-6.6) 67(-14.575,-7) 68(-14.575,-7.4) 69(-14.575,-7.8) 70(-14.575,-8.2) 71(-14.575,-8.6) 72(-14.575,-9) 73(-14.575,-9.4) 74(-14.575,-9.8) 75(-14.575,-10.2) 76(-14.575,-10.6) 77(-14.575,-11) 78(-14.575,-11.4) 79(-14.575,-11.8) 80(-14.575,-12.2) 81(-14.575,-12.6) 82(-14.575,-13) 83(-14.575,-13.4) 84(-14.575,-13.8) 85(-14.575,-14.2) 86(-14.575,-14.6) 87(-14.575,-15) 88(-14.575,-15.4) 89(-14.575,-15.8) 90(-14.575,-16.2) 91(-14.575,-16.6) 92(-14.575,-17) 93(-14.575,-17.4) 94(-14.575,-17.8) 95(-14.575,-18.2) 96(-14.575,-18.6) 97(-14.575,-19) 98(-14.575,-19.4) 167(14.575,-19.4) 168(14.575,-19) 169(14.575,-18.6) 170(14.575,-18.2) 171(14.575,-17.8) 172(14.575,-17.4) 173(14.575,-17) 174(14.575,-16.6) 175(14.575,-16.2) 176(14.575,-15.8) 177(14.575,-15.4) 178(14.575,-15) 179(14.575,-14.6) 180(14.575,-14.2) 181(14.575,-13.8) 182(14.575,-13.4) 183(14.575,-13) 184(14.575,-12.6) 185(14.575,-12.2) 186(14.575,-11.8) 187(14.575,-11.4) 188(14.575,-11) 189(14.575,-10.6) 190(14.575,-10.2) 191(14.575,-9.8) 192(14.575,-9.4) 193(14.575,-9) 194(14.575,-8.6) 195(14.575,-8.2) 196(14.575,-7.8) 197(14.575,-7.4) 198(14.575,-7) 199(14.575,-6.6) 200(14.575,-6.2) 201(14.575,-5.8) 202(14.575,-5.4) 203(14.575,-5) 204(14.575,-4.6) 205(14.575,-4.2) 206(14.575,-3.8) 207(14.575,-3.4) 208(14.575,-3) 209(14.575,-2.6) 210(14.575,-2.2) 211(14.575,-1.8) 212(14.575,-1.4) 213(14.575,-1) 214(14.575,-0.6) 215(14.575,-0.2) 216(14.575,0.2) 217(14.575,0.6) 218(14.575,1) 219(14.575,1.4) 220(14.575,1.8) 221(14.575,2.2) 222(14.575,2.6) 223(14.575,3) 224(14.575,3.4) 225(14.575,3.8) 226(14.575,4.2) 227(14.575,4.6) 228(14.575,5) 229(14.575,5.4) 230(14.575,5.8) 231(14.575,6.2) 232(14.575,6.6) 233(14.575,7) 234(14.575,7.4) 235(14.575,7.8) 236(14.575,8.2) 237(14.575,8.6) 238(14.575,9) 239(14.575,9.4) 240(14.575,9.8) 241(14.575,10.2) 242(14.575,10.6) 243(14.575,11) 244(14.575,11.4) 245(14.575,11.8) 246(14.575,12.2) 247(14.575,12.6) 248(14.575,13) 249(14.575,13.4) 250(14.575,13.8) 251(14.575,14.2) 252(14.575,14.6) 253(14.575,15) 254(14.575,15.4) 255(14.575,15.8) 256(14.575,16.2) 257(14.575,16.6) 258(14.575,17) 259(14.575,17.4) 260(14.575,17.8) 261(14.575,18.2) 262(14.575,18.6) 263(14.575,19) 264(14.575,19.4)
  oval 0.24x1.75 smd: 99(-13.4,-20.575) 100(-13,-20.575) 101(-12.6,-20.575) 102(-12.2,-20.575) 103(-11.8,-20.575) 104(-11.4,-20.575) 105(-11,-20.575) 106(-10.6,-20.575) 107(-10.2,-20.575) 108(-9.8,-20.575) 109(-9.4,-20.575) 110(-9,-20.575) 111(-8.6,-20.575) 112(-8.2,-20.575) 113(-7.8,-20.575) 114(-7.4,-20.575) 115(-7,-20.575) 116(-6.6,-20.575) 117(-6.2,-20.575) 118(-5.8,-20.575) 119(-5.4,-20.575) 120(-5,-20.575) 121(-4.6,-20.575) 122(-4.2,-20.575) 123(-3.8,-20.575) 124(-3.4,-20.575) 125(-3,-20.575) 126(-2.6,-20.575) 127(-2.2,-20.575) 128(-1.8,-20.575) 129(-1.4,-20.575) 130(-1,-20.575) 131(-0.6,-20.575) 132(-0.2,-20.575) 133(0.2,-20.575) 134(0.6,-20.575) 135(1,-20.575) 136(1.4,-20.575) 137(1.8,-20.575) 138(2.2,-20.575) 139(2.6,-20.575) 140(3,-20.575) 141(3.4,-20.575) 142(3.8,-20.575) 143(4.2,-20.575) 144(4.6,-20.575) 145(5,-20.575) 146(5.4,-20.575) 147(5.8,-20.575) 148(6.2,-20.575) 149(6.6,-20.575) 150(7,-20.575) 151(7.4,-20.575) 152(7.8,-20.575) 153(8.2,-20.575) 154(8.6,-20.575) 155(9,-20.575) 156(9.4,-20.575) 157(9.8,-20.575) 158(10.2,-20.575) 159(10.6,-20.575) 160(11,-20.575) 161(11.4,-20.575) 162(11.8,-20.575) 163(12.2,-20.575) 164(12.6,-20.575) 165(13,-20.575) 166(13.4,-20.575) 265(13.4,20.575) 266(13,20.575) 267(12.6,20.575) 268(12.2,20.575) 269(11.8,20.575) 270(11.4,20.575) 271(11,20.575) 272(10.6,20.575) 273(10.2,20.575) 274(9.8,20.575) 275(9.4,20.575) 276(9,20.575) 277(8.6,20.575) 278(8.2,20.575) 279(7.8,20.575) 280(7.4,20.575) 281(7,20.575) 282(6.6,20.575) 283(6.2,20.575) 284(5.8,20.575) 285(5.4,20.575) 286(5,20.575) 287(4.6,20.575) 288(4.2,20.575) 289(3.8,20.575) 290(3.4,20.575) 291(3,20.575) 292(2.6,20.575) 293(2.2,20.575) 294(1.8,20.575) 295(1.4,20.575) 296(1,20.575) 297(0.6,20.575) 298(0.2,20.575) 299(-0.2,20.575) 300(-0.6,20.575) 301(-1,20.575) 302(-1.4,20.575) 303(-1.8,20.575) 304(-2.2,20.575) 305(-2.6,20.575) 306(-3,20.575) 307(-3.4,20.575) 308(-3.8,20.575) 309(-4.2,20.575) 310(-4.6,20.575) 311(-5,20.575) 312(-5.4,20.575) 313(-5.8,20.575) 314(-6.2,20.575) 315(-6.6,20.575) 316(-7,20.575) 317(-7.4,20.575) 318(-7.8,20.575) 319(-8.2,20.575) 320(-8.6,20.575) 321(-9,20.575) 322(-9.4,20.575) 323(-9.8,20.575) 324(-10.2,20.575) 325(-10.6,20.575) 326(-11,20.575) 327(-11.4,20.575) 328(-11.8,20.575) 329(-12.2,20.575) 330(-12.6,20.575) 331(-13,20.575) 332(-13.4,20.575)
Top Overlay:
  circle w0.25: c-14.575,20.07 r0.125
  circle w0.6: c-12.3,18.3 r0.3
  lines w0.2: -13.3,-19.3 -13.3,19.3 13.3,19.3 13.3,-19.3 -13.3,-19.3
Mechanical 13:
  circle w0.1: c-13.1,19.1 r0.5
  lines w0.1: -14,-20 -14,20 14,20 14,-20 -14,-20
Mechanical 15:
  lines w0.1: -0.5,0 0.5,0 ; 0,-0.5 0,0.5 ; -15.7,-21.7 -15.7,21.7 15.7,21.7 15.7,-21.7 -15.7,-21.7
3D body: height 4.2, standoff 0, extent -14,-20 14,20